# EAGLE library part WIZ850IO (library neopixel_board)
https://www.digikey.com/products/en?keywords=wiz850io
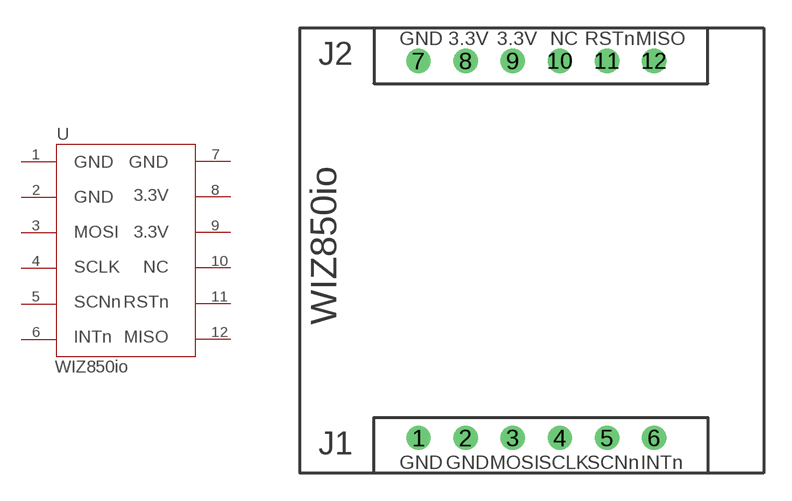
[diagram p1: symbol with the pads of WIZ850IO; footprint WIZ850IO]

Designator prefix -

## WIZ850IO  [WIZ850IO]
1  1  pas
2  2  pas
3  3  pas
4  4  pas
5  5  pas
6  6  pas
7  7  pas
8  8  pas
9  9  pas
10  10  pas
11  11  pas
12  12  pas

## Footprint WIZ850IO (pad centres in mm)
WIZ850io Compact Ethernet Module https://www.digikey.com/products/en?keywords=wiz850io
drill 0.8: 1 6.4,1.9; 2 8.94,1.9; 3 11.48,1.9; 4 14.02,1.9; 5 16.56,1.9; 6 19.1,1.9; 7 6.4,22.22; 8 8.94,22.22; 9 11.48,22.22; 10 14.02,22.22; 11 16.56,22.22; 12 19.1,22.22